# EAGLE library part SMLP36RGB2W3 (library Shohei)
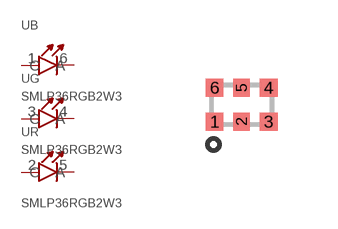
[diagram p29: symbol with the pads of 0604(6PIN); footprint 0604(6PIN)]

Designator prefix -; gates B=LED G=LED R=LED

## SMLP36RGB2W3  [0604(6PIN)]
1  B:A
2  R:A
3  G:A
4  G:C
5  R:C
6  B:C

## Footprint 0604(6PIN) (pad centres in mm)
smd 0.45 x 0.45: 1 -0.675,-0.425; 3 0.675,-0.425; 4 0.675,0.425; 6 -0.675,0.425
smd 0.4 x 0.45: 2 0,-0.425; 5 0,0.425